# Altium footprint library FootPrintLib_4.PcbLib: 700 footprints (part 31 of 44)
Each footprint in its own frame and in the unit in brackets; x right, y up, seen from the top. Pads: shape width x height; smd on the part's side, far side on the other; paste and mask are expansions set on the pad; w line width, h text height; cw(c..) or ccw(c..) is an arc to the next point about the centre after c.
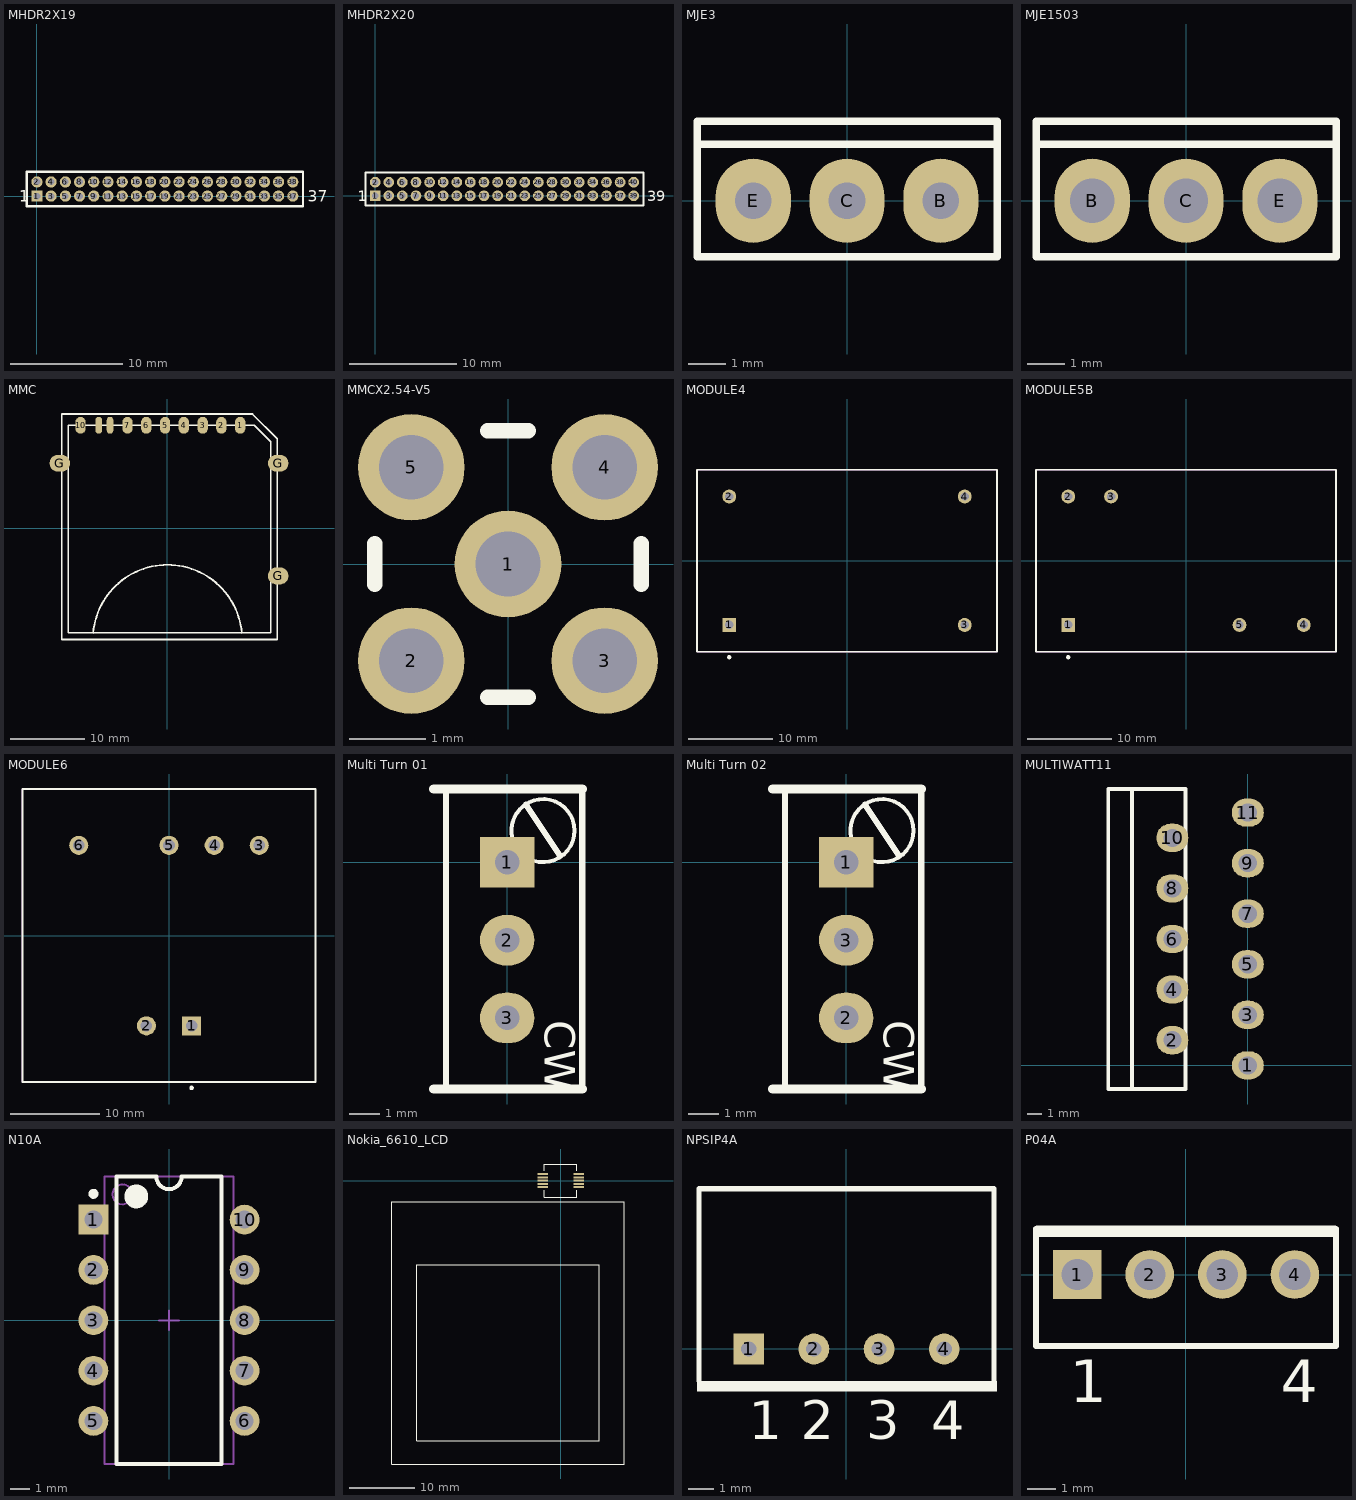
[diagram p30: the footprints below, top view; thin cyan lines are the x and y axes]

## MHDR2X19 [mm] "Connector; Header; 19x2 Position"
pads (38):
  rect 1x1 hole 0.6: 1(0,0)
  round 1 hole 0.6: 2(0,1.27) 3(1.27,0) 4(1.27,1.27) 5(2.54,0) 6(2.54,1.27) 7(3.81,0) 8(3.81,1.27) 9(5.08,0) 10(5.08,1.27) 11(6.35,0) 12(6.35,1.27) 13(7.62,0) 14(7.62,1.27) 15(8.89,0) 16(8.89,1.27) 17(10.16,0) 18(10.16,1.27) 19(11.43,0) 20(11.43,1.27) 21(12.7,0) 22(12.7,1.27) 23(13.97,0) 24(13.97,1.27) 25(15.24,0) 26(15.24,1.27) 27(16.51,0) 28(16.51,1.27) 29(17.78,0) 30(17.78,1.27) 31(19.05,0) 32(19.05,1.27) 33(20.32,0) 34(20.32,1.27) 35(21.59,0) 36(21.59,1.27) 37(22.86,0) 38(22.86,1.27)
Top Overlay:
  lines w0.2: -0.9,-0.9 23.76,-0.9 23.76,2.17 -0.9,2.17 -0.9,-0.9
  text "1" at -1.6,-0.508 h1
  text "37" at 24.2,-0.508 h1

## MHDR2X20 [mm] "Connector; Header; 20x2 Position"
pads (40):
  rect 1x1 hole 0.6: 1(0,0)
  round 1 hole 0.6: 2(0,1.27) 3(1.27,0) 4(1.27,1.27) 5(2.54,0) 6(2.54,1.27) 7(3.81,0) 8(3.81,1.27) 9(5.08,0) 10(5.08,1.27) 11(6.35,0) 12(6.35,1.27) 13(7.62,0) 14(7.62,1.27) 15(8.89,0) 16(8.89,1.27) 17(10.16,0) 18(10.16,1.27) 19(11.43,0) 20(11.43,1.27) 21(12.7,0) 22(12.7,1.27) 23(13.97,0) 24(13.97,1.27) 25(15.24,0) 26(15.24,1.27) 27(16.51,0) 28(16.51,1.27) 29(17.78,0) 30(17.78,1.27) 31(19.05,0) 32(19.05,1.27) 33(20.32,0) 34(20.32,1.27) 35(21.59,0) 36(21.59,1.27) 37(22.86,0) 38(22.86,1.27) 39(24.13,0) 40(24.13,1.27)
Top Overlay:
  lines w0.2: -0.9,-0.9 25.03,-0.9 25.03,2.17 -0.9,2.17 -0.9,-0.9
  text "1" at -1.6,-0.508 h1
  text "39" at 25.4,-0.508 h1

## MJE3 [mil]
pads (3):
  oval 80x90 hole 39.37: B(100,0) C(0,0) E(-100,0)
Top Overlay:
  lines w8: -160,60 -160,85 160,85 160,60 ; -160,60 -160,-60 160,-60 160,60 ; -160,60 160,60

## MJE1503 [mil]
pads (3):
  oval 80x90 hole 47.24: B(-100,0) C(0,0) E(100,0)
Top Overlay:
  lines w8: -160,60 -160,85 160,85 160,60 ; -160,60 -160,-60 160,-60 160,60 ; -160,60 160,60

## MMC [mil]
pads (13):
  oval 55x90 smd: 1(388.04,546.96) 2(288.04,546.96) 3(188.04,546.96) 4(88.04,546.96) 5(-11.96,546.96) 6(-111.96,546.96) 7(-211.96,546.96) 10(-461.96,546.96)
  oval 35x90 smd: 8(-305,546.96) 9(-365,546.96)
  oval 110x90 smd: G(-571.96,345) G(590,-255) G(590,345)
Top Overlay:
  lines w7: -526.96,-558.04 550,-558.04 550,460 463.04,546.96 -526.96,546.96 -526.96,-558.04
  lines w10: -394.56,-558.25 cw(c1.04,-593.04) 396.63,-558.17 ; -561.96,-593.04 585,-593.04 585,475 453.04,606.96 -561.96,606.96 -561.96,-593.04

## MMCX2.54-V5 [mm] "Connector; RF Coaxial, MMCX, Thru-Hole; 5 Position; Vertical"
height 4.45
pads (5):
  round 1.4 hole 0.85: 1(0,0) 2(-1.27,-1.27) 3(1.27,-1.27) 4(1.27,1.27) 5(-1.27,1.27)
Top Overlay:
  lines w0.2: -1.75,-0.27 -1.75,0.27 ; -0.27,-1.75 0.27,-1.75 ; -0.27,1.75 0.27,1.75 ; 1.75,-0.27 1.75,0.27

## MODULE4 [mm] "DIP; 4 Round Pins; Row Space 27.94 mm; Pitch 15.24 mm"
height 14
pads (4):
  rect 1.65x1.65 hole 1: 1(-13.97,-7.62)
  round 1.65 hole 1: 2(-13.97,7.62) 3(13.97,-7.62) 4(13.97,7.62)
Top Overlay:
  circle w0.25: c-13.97,-11.45 r0.125
  lines w0.2: -17.8,-10.8 17.8,-10.8 17.8,10.8 -17.8,10.8 -17.8,-10.8
Mechanical 13:
  lines w0.1: -17.8,-10.8 17.8,-10.8 17.8,10.8 -17.8,10.8 -17.8,-10.8
3D body: height 14, standoff 0, extent -17.8,-10.8 17.8,10.8

## MODULE5B [mm] "DIP; 5 Round Pins; Row Space 15.24 mm; Pitch 2.54 mm"
height 14
pads (5):
  rect 1.65x1.65 hole 1: 1(-13.97,-7.62)
  round 1.65 hole 1: 2(-13.97,7.62) 3(-8.89,7.62) 4(13.97,-7.62) 5(6.35,-7.62)
Top Overlay:
  circle w0.25: c-13.97,-11.45 r0.125
  lines w0.2: -17.8,-10.8 17.8,-10.8 17.8,10.8 -17.8,10.8 -17.8,-10.8
Mechanical 13:
  lines w0.1: -17.8,-10.8 -17.8,10.8 17.8,10.8 17.8,-10.8 -17.8,-10.8
3D body: height 14, standoff 0, extent -17.8,-10.8 17.8,10.8

## MODULE6 [mm] "DIP; 6 Round Pins; Row Space 20.32 mm; Pitch 2.54 mm"
height 16.5
pads (6):
  rect 2.15x2.15 hole 1.3: 1(2.54,-10.16)
  round 2.15 hole 1.3: 2(-2.54,-10.16) 3(10.16,10.16) 4(5.08,10.16) 5(0,10.16) 6(-10.16,10.16)
Top Overlay:
  circle w0.25: c2.54,-17.15 r0.125
  lines w0.2: -16.5,-16.5 -16.5,16.5 16.5,16.5 16.5,-16.5 -16.5,-16.5
Mechanical 13:
  lines w0.1: -16.5,-16.5 -16.5,16.5 16.5,16.5 16.5,-16.5 -16.5,-16.5
3D body: height 16.5, standoff 0, extent -16.5,-16.5 16.5,16.5

## Multi Turn 01 [mil] "Stand Multi Turn - Turning CW Increase P1~2 Resistor"
height 472.44
pads (3):
  rect 70x65 hole 31.5: 1(0,0)
  oval 70x65 hole 31.5: 2(0,-100) 3(0,-200)
Top Overlay:
  circle w5: c46.03,40.94 r40.58
  lines w7.87: -78.74,-291.34 -78.74,94.49 ; 24.02,74.41 67.72,8.66 ; 96.46,-291.34 96.46,94.49
  lines w11.81: -94.49,-291.34 96.46,-291.34 ; -94.49,94.49 96.46,94.49
  text "CW" at 48,-203 h39.37
3D body "multiturn.STEP": height 452.18, standoff -75.38, extent -73.75,-282.01 92,92.01

## Multi Turn 02 [mil]
pads (3):
  rect 70x65 hole 31.5: 1(0,0)
  oval 70x65 hole 31.5: 2(0,-200) 3(0,-100)
Top Overlay:
  circle w5: c46.03,40.94 r40.58
  lines w7.87: -78.74,-291.34 -78.74,94.49 ; 24.02,74.41 67.72,8.66 ; 96.46,-291.34 96.46,94.49
  lines w11.81: -94.49,-291.34 96.46,-291.34 ; -94.49,94.49 96.46,94.49
  text "CW" at 48,-203 h39.37
3D body "multiturn.STEP": height 452.18, standoff -75.38, extent -73.23,-285.04 92.52,88.98

## MULTIWATT11 [mil] "Use For L6203"
height 760
pads (11):
  oval 85x75 hole 48: 1(0,0) 2(-200,67) 3(0,134) 4(-200,201) 5(0,268) 6(-200,335) 7(0,402) 8(-200,469) 9(0,536) 10(-200,603) 11(0,670)
Top Overlay:
  lines w10: -317,732.5 -315,732.5 ; -307,-62.5 -307,732.5 ; -370,-62.5 -165,-62.5 -165,732.5 -370,732.5 -370,-62.5
3D body: height 760, standoff 62, extent -368,-61 -307,731
3D body: height 42, standoff 20, extent -254,-18 11,19
3D body: height 62, standoff 42, extent -254,-18 -232,19
3D body: height 42, standoff 20, extent -254,116 11,153
3D body: height 62, standoff 42, extent -254,116 -232,153
3D body: height 42, standoff 20, extent -254,250 11,287
3D body: height 62, standoff 42, extent -254,250 -232,287
3D body: height 42, standoff 20, extent -254,384 11,421
3D body: height 62, standoff 42, extent -254,384 -232,421
3D body: height 42, standoff 20, extent -254,518 11,555
3D body: height 62, standoff 42, extent -254,518 -232,555
3D body: height 62, standoff 42, extent -254,652 -232,689
3D body: height 42, standoff 20, extent -254,652 11,689
3D body: height 42, standoff 20, extent -254,49 -189,86
3D body: height 62, standoff 42, extent -254,49 -232,86
3D body: height 42, standoff 20, extent -254,183 -189,220
3D body: height 62, standoff 42, extent -254,183 -232,220
3D body: height 42, standoff 20, extent -254,317 -189,354
3D body: height 62, standoff 42, extent -254,317 -232,354
3D body: height 42, standoff 20, extent -254,451 -189,488
3D body: height 62, standoff 42, extent -254,451 -232,488
3D body: height 62, standoff 42, extent -254,585 -232,622
3D body: height 42, standoff 20, extent -254,585 -189,622
3D body: height 20, standoff -40, extent -11,-18 11,19
3D body: height 20, standoff -40, extent -211,49 -189,86
3D body: height 20, standoff -40, extent -11,116 11,153
3D body: height 20, standoff -40, extent -211,183 -189,220
3D body: height 20, standoff -40, extent -11,250 11,287
3D body: height 20, standoff -40, extent -211,317 -189,354
3D body: height 20, standoff -40, extent -11,384 11,421
3D body: height 20, standoff -40, extent -211,451 -189,488
3D body: height 20, standoff -40, extent -11,518 11,555
3D body: height 20, standoff -40, extent -211,585 -189,622
3D body: height 20, standoff -40, extent -11,652 11,689
3D body: height 490, standoff 60, extent -370,-62.5 -165,732.5

## N10A [mm] "DIP; 10 Leads; Row Spacing 7.62 mm; Pitch 2.54 mm"
height 5.08
pads (10):
  rect 1.5x1.5 hole 0.9: 1(-3.81,5.08)
  round 1.5 hole 0.9: 2(-3.81,2.54) 3(-3.81,0) 4(-3.81,-2.54) 5(-3.81,-5.08) 6(3.81,-5.08) 7(3.81,-2.54) 8(3.81,0) 9(3.81,2.54) 10(3.81,5.08)
Top Overlay:
  circle w0.6: c-1.65,6.25 r0.3
  circle w0.25: c-3.81,6.38 r0.125
  lines w0.2: -2.65,-7.25 2.65,-7.25 2.65,7.25 0.635,7.25 cw(c0,7.25) -0.635,7.25 -2.65,7.25 -2.65,-7.25
Mechanical 13:
  circle w0.1: c-2.35,6.35 r0.5
  lines w0.1: -3.25,-7.25 3.25,-7.25 3.25,7.25 -3.25,7.25 -3.25,-7.25
Mechanical 15:
  lines w0.1: -0.5,0 0.5,0 ; 0,-0.5 0,0.5
3D body: height 5.08, standoff 0, extent -3.25,-7.25 3.25,7.25

## Nokia_6610_LCD [mm]
pads (10):
  rect 1.6x0.3 smd: 1(-2.75,1) 2(-2.75,0.5) 3(-2.75,0) 4(-2.75,-0.5) 5(-2.75,-1) 6(2.75,-1) 7(2.75,-0.5) 8(2.75,0) 9(2.75,0.5) 10(2.75,1)
Top Overlay:
  lines w0.127: -2.5,-1.5 -2.5,-2.55 2.5,-2.55 2.5,-1.5 ; -2.5,1.5 -2.5,2.55 2.5,2.55 2.5,1.5 ; 2.121,-12.843 2.375,-12.843 ; 2.375,-12.843 -22.009,-12.843 -22.009,-39.767 -9.817,-39.767 5.931,-39.767 5.931,-12.843 2.375,-12.843 ; -25.819,-43.323 -25.819,-3.191 9.741,-3.191 9.741,-43.323 -9.817,-43.323 -25.819,-43.323
3D body: height 2, standoff 0, extent -25.819,-43.323 9.741,-3.191
3D body "DF23C-10DS-0.5V.stp": height 1.46, standoff 0.01, extent -3,-2.55 3,2.55

## NPSIP4A [mm] "SIP; 4 Leads; Body 10 x 11.5 x 7.5 mm (typ); Pitch 2.54 mm"
height 10.6
pads (4):
  rect 1.2x1.2 hole 0.6: 1(-3.81,0)
  round 1.2 hole 0.6: 2(-1.27,0) 3(1.27,0) 4(3.81,0)
Top Overlay:
  rectangle: -5.83,-1.65 5.87,-1.25
  lines w0.2: -5.75,-1.25 -5.75,6.25 5.75,6.25 5.75,-1.25
  text "4" at 3.302,-3.52 h1.5
  text "3" at 0.762,-3.52 h1.5
  text "2" at -1.778,-3.52 h1.5
  text "1" at -3.81,-3.52 h1.5

## P04A [mm] "TO, Thru-Hole, Vertical, Heatsink Mounted; 4 In-Line Leads; Pitch 2.54 mm"
height 20.6
pads (4):
  rect 1.7x1.7 hole 1.1: 1(-3.81,0)
  round 1.7 hole 1.1: 2(-1.27,0) 3(1.27,0) 4(3.81,0)
Top Overlay:
  rectangle: -5.25,1.311 5.25,1.711
  lines w0.2: -5.25,1.6 -5.25,-2.5 5.25,-2.5 5.25,1.6
  text "1" at -4.06,-4.475 h1.5
  text "4" at 3.31,-4.475 h1.5